# Altium schematic symbol library SnapEDAsch.SchLib: 1 symbol
Pins are listed as number, name and electrical type; pins without a type are passive.

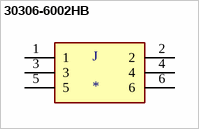
[diagram p0: symbol 30306-6002HB]

## 30306-6002HB
designator J
Connector Header Through Hole 6 position 0.100 _2.54mm_; MF: 3M; MP: 30306-6002HB; Package: None; Availability: Unavailable; Value: *; SnapEDA_Link: https://www.snapeda.com/parts/30306-6002HB/3M%20%28TC%29/view-part/542808/?ref=snap; Price: None
footprint 3M_30306-6002HB
pins: 1, 2, 3, 4, 5, 6